# Altium footprint library linear.PCBLIB: 119 footprints (part 5 of 8)
Each footprint in its own frame and in the unit in brackets; x right, y up, seen from the top. Pads: shape width x height; smd on the part's side, far side on the other; paste and mask are expansions set on the pad; w line width, h text height; cw(c..) or ccw(c..) is an arc to the next point about the centre after c.
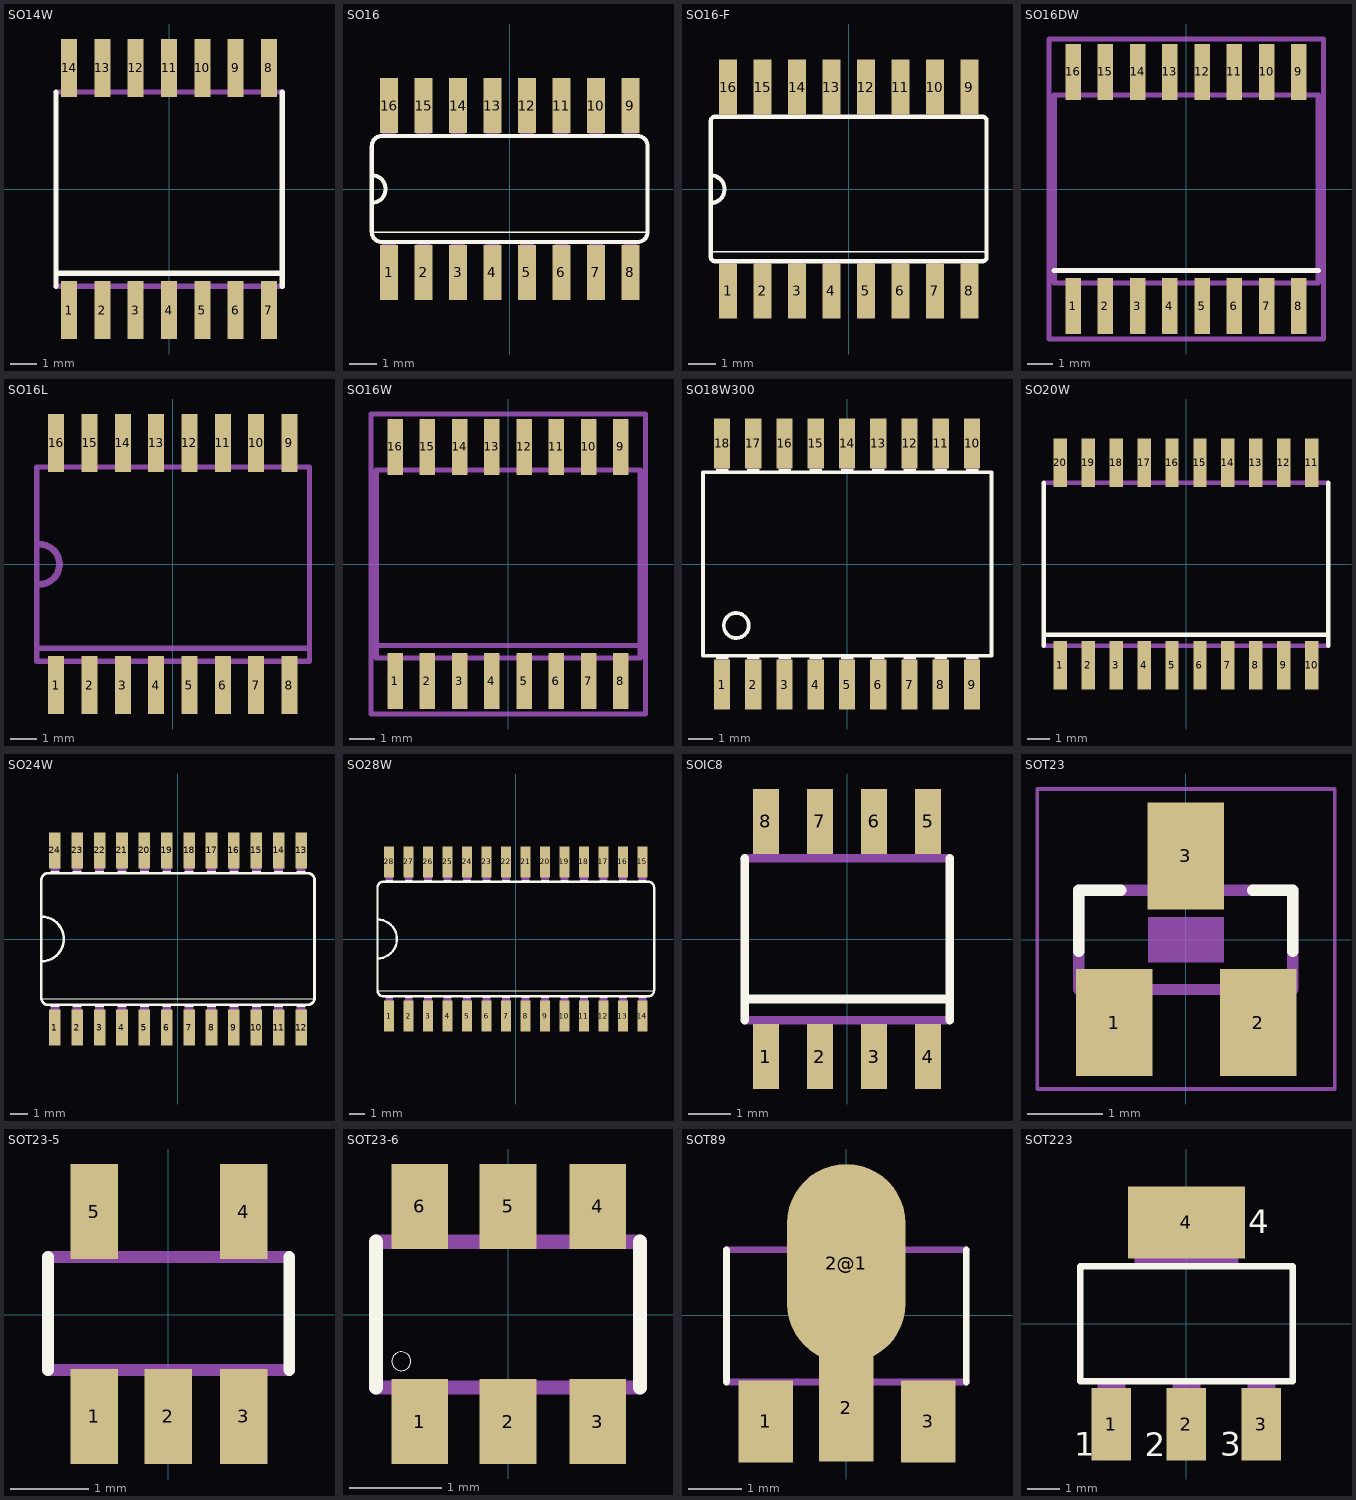
[diagram p4: the footprints below, top view; thin cyan lines are the x and y axes]

## SO14W [mil]
pads (14):
  rect 24x87 smd: 1(-150,-181.1) 2(-100,-181.1) 3(-50,-181.1) 4(0,-181.1) 5(50,-181.1) 6(100,-181.1) 7(150,-181.1) 8(150,182) 9(100,182) 10(50,182) 11(0,182) 12(-50,182) 13(-100,182) 14(-150,182)
Top Overlay:
  lines w8: -169.49,-145.67 -169.49,-125.98 ; -169.49,146 -169.49,-125.98 ; 170,-145.67 170,-125.98 ; 170,146 170,-125.98 ; -169.49,-125.98 170,-125.98
Mechanical 16:
  rectangle: -159.65,-209.45 -140.35,-149.61
  rectangle: -109.65,-209.45 -90.35,-149.61
  rectangle: -59.65,-209.45 -40.35,-149.61
  rectangle: -9.65,-209.45 10,-149.61
  rectangle: 41,-209.45 60,-149.61
  rectangle: 91,-209.45 110,-149.61
  rectangle: 141,-209.45 160,-149.61
  rectangle: 141,150 160,210
  rectangle: 91,150 110,210
  rectangle: 41,150 60,210
  rectangle: -9.65,150 10,210
  rectangle: -59.65,150 -40.35,210
  rectangle: -109.65,150 -90.35,210
  rectangle: -159.65,150 -140.35,210
  lines w8: -169.49,-145.67 170,-145.67 ; -169.49,146 170,146

## SO16 [mil]
pads (16):
  rect 26x80 smd: 1(-175,-121) 2(-125,-121) 3(-75,-121) 4(-25,-121) 5(25,-121) 6(75,-121) 7(125,-121) 8(175,-121) 9(175,121) 10(125,121) 11(75,121) 12(25,121) 13(-25,121) 14(-75,121) 15(-125,121) 16(-175,121)
Top Overlay:
  lines w2: -200,-63 200,-63
  lines w6: -200,-20 -200,20 ; -200,-20 -200,-62 ccw(c-185,-62) -185,-77 185,-77 ccw(c185,-62) 200,-62 200,62 ccw(c185,62) 185,77 -185,77 ccw(c-185,62) -200,62 -200,20 ; -200,-20 ccw(c-200,0) -200,20
Mechanical 16:
  rectangle: -35,77 -15,122
  rectangle: -185,-122 -165,-77
  rectangle: -135,-122 -115,-77
  rectangle: -85,-121 -65,-76
  rectangle: -35,-122 -15,-77
  rectangle: -85,77 -65,122
  rectangle: -135,77 -115,122
  rectangle: -185,77 -165,122
  rectangle: 15,-122 35,-77
  rectangle: 65,-122 85,-77
  rectangle: 115,-122 135,-77
  rectangle: 165,-122 185,-77
  rectangle: 15,77 35,122
  rectangle: 65,77 85,122
  rectangle: 115,77 135,122
  rectangle: 165,77 185,122

## SO16-F [mil]
pads (16):
  rect 26x80 smd: 1(-175,-147.57) 2(-125,-147.57) 3(-75,-147.57) 4(-25,-147.57) 5(25,-147.57) 6(75,-147.57) 7(125,-147.57) 8(175,-147.57) 9(175,148) 10(125,148) 11(75,148) 12(25,148) 13(-25,148) 14(-75,148) 15(-125,148) 16(-175,148)
Top Overlay:
  lines w2: -200,-90.56 200,-90.56
  lines w6: -200,-20 -200,20 ; -200,-20 -200,-90.56 -200,-98.42 ccw(c-193.86,-98.42) -193.86,-104.56 194,-104.56 ccw(c193.93,-98.49) 200,-98.42 200,-90.56 200,99 ccw(c194,99) 194,105 -193.86,105 ccw(c-193.93,98.93) -200,99 -200,20 ; -200,-20 ccw(c-200,0) -200,20
Mechanical 16:
  rectangle: -35,108 -15,162
  rectangle: -185,-161.37 -165,-107.28
  rectangle: -135,-161.37 -115,-107.28
  rectangle: -85,-160.37 -65,-107.28
  rectangle: -35,-161.37 -15,-107.28
  rectangle: -85,108 -65,162
  rectangle: -135,108 -115,162
  rectangle: -185,108 -165,162
  rectangle: 15,-161.37 35,-107.28
  rectangle: 65,-161.37 85,-107.28
  rectangle: 115,-161.37 135,-107.28
  rectangle: 165,-161.37 185,-107.28
  rectangle: 15,108 35,162
  rectangle: 65,108 85,162
  rectangle: 115,108 135,162
  rectangle: 165,108 185,162

## SO16DW [mil]
pads (16):
  rect 24x87 smd: 1(-175,-181.1) 2(-125,-181.1) 3(-75,-181.1) 4(-25,-181.1) 5(25,-181.1) 6(75,-181.1) 7(125,-181.1) 8(175,-181.1) 9(175,182) 10(125,182) 11(75,182) 12(25,182) 13(-25,182) 14(-75,182) 15(-125,182) 16(-175,182)
Top Overlay:
  lines w8: -204.33,-125.98 205,-125.98
Mechanical 16:
  rectangle: -184.65,-209.45 -165.35,-149.61
  rectangle: -134.65,-209.45 -115.35,-149.61
  rectangle: -84.65,-209.45 -65.35,-149.61
  rectangle: -34.65,-209.45 -15.35,-149.61
  rectangle: 16,-209.45 35,-149.61
  rectangle: 66,-209.45 85,-149.61
  rectangle: 116,-209.45 135,-149.61
  rectangle: 166,-209.45 185,-149.61
  rectangle: 166,150 185,210
  rectangle: 116,150 135,210
  rectangle: 66,150 85,210
  rectangle: 16,150 35,210
  rectangle: -34.65,150 -15.35,210
  rectangle: -84.65,150 -65.35,210
  rectangle: -134.65,150 -115.35,210
  rectangle: -184.65,150 -165.35,210
  lines w8: -204.33,-145.67 205,-145.67 205,146 -204.33,146 -204.33,-145.67
Mechanical 27:
  lines w8: -212.4,-232.28 213,-232.28 213,233 -212.4,233 -212.4,-232.28

## SO16L [mil]
pads (16):
  rect 24x87 smd: 1(-175,-181.1) 2(-125,-181.1) 3(-75,-181.1) 4(-25,-181.1) 5(25,-181.1) 6(75,-181.1) 7(125,-181.1) 8(175,-181.1) 9(175,182) 10(125,182) 11(75,182) 12(25,182) 13(-25,182) 14(-75,182) 15(-125,182) 16(-175,182)
Mechanical 13:
  lines w10: -200,-30 ccw(c-200,0) -200,30
Mechanical 16:
  rectangle: -184.65,-209.45 -165.35,-149.61
  rectangle: -134.65,-209.45 -115.35,-149.61
  rectangle: -84.65,-209.45 -65.35,-149.61
  rectangle: -34.65,-209.45 -15.35,-149.61
  rectangle: 16,-209.45 35,-149.61
  rectangle: 66,-209.45 85,-149.61
  rectangle: 116,-209.45 135,-149.61
  rectangle: 166,-209.45 185,-149.61
  rectangle: 166,150 185,210
  rectangle: 116,150 135,210
  rectangle: 66,150 85,210
  rectangle: 16,150 35,210
  rectangle: -34.65,150 -15.35,210
  rectangle: -84.65,150 -65.35,210
  rectangle: -134.65,150 -115.35,210
  rectangle: -184.65,150 -165.35,210
  lines w8: -204.33,-125.98 -204.33,-145.67 205,-145.67 205,-125.98 ; -204.33,-125.98 -204.33,146 205,146 205,-125.98 ; -204.33,-125.98 205,-125.98

## SO16W [mil]
pads (16):
  rect 24x87 smd: 1(-175,-181.1) 2(-125,-181.1) 3(-75,-181.1) 4(-25,-181.1) 5(25,-181.1) 6(75,-181.1) 7(125,-181.1) 8(175,-181.1) 9(175,182) 10(125,182) 11(75,182) 12(25,182) 13(-25,182) 14(-75,182) 15(-125,182) 16(-175,182)
Mechanical 16:
  rectangle: -184.65,-209.45 -165.35,-149.61
  rectangle: -134.65,-209.45 -115.35,-149.61
  rectangle: -84.65,-209.45 -65.35,-149.61
  rectangle: -34.65,-209.45 -15.35,-149.61
  rectangle: 16,-209.45 35,-149.61
  rectangle: 66,-209.45 85,-149.61
  rectangle: 116,-209.45 135,-149.61
  rectangle: 166,-209.45 185,-149.61
  rectangle: 166,150 185,210
  rectangle: 116,150 135,210
  rectangle: 66,150 85,210
  rectangle: 16,150 35,210
  rectangle: -34.65,150 -15.35,210
  rectangle: -84.65,150 -65.35,210
  rectangle: -134.65,150 -115.35,210
  rectangle: -184.65,150 -165.35,210
  lines w8: -204.33,-125.98 -204.33,-145.67 205,-145.67 205,-125.98 ; -204.33,-125.98 -204.33,146 205,146 205,-125.98 ; -204.33,-125.98 205,-125.98
Mechanical 27:
  lines w8: -212.4,-232.28 213,-232.28 213,233 -212.4,233 -212.4,-232.28

## SO18W300 [mil]
pads (18):
  rect 26x80 smd: 1(-200,-193) 2(-150,-193) 3(-100,-193) 4(-50,-193) 5(0,-193) 6(50,-193) 7(100,-193) 8(150,-193) 9(200,-193) 10(200,193) 11(150,193) 12(100,193) 13(50,193) 14(0,193) 15(-50,193) 16(-100,193) 17(-150,193) 18(-200,193)
Top Overlay:
  circle w6: c-177.17,-98.43 r20
  rectangle: -210,-152 -190,-147
  rectangle: -160,-152 -140,-147
  rectangle: -110,-152 -90,-147
  rectangle: -60,-152 -40,-147
  rectangle: -10,-152 10,-147
  rectangle: 40,-152 60,-147
  rectangle: 90,-152 110,-147
  rectangle: 140,-152 160,-147
  rectangle: -210,147 -190,152
  rectangle: -160,147 -140,152
  rectangle: -110,147 -90,152
  rectangle: -60,147 -40,152
  rectangle: -10,147 10,152
  rectangle: 40,147 60,152
  rectangle: 90,147 110,152
  rectangle: 140,147 160,152
  rectangle: 190,147 210,152
  rectangle: 190,-152 210,-147
  lines w6: -230.31,-146.65 231,-146.65 231,147 -230.31,147 -230.31,-146.65
Mechanical 16:
  rectangle: -210,-210 -190,-152
  rectangle: -160,-210 -140,-152
  rectangle: -110,-210 -90,-152
  rectangle: -60,-210 -40,-152
  rectangle: -10,-210 10,-152
  rectangle: 40,-210 60,-152
  rectangle: 90,-210 110,-152
  rectangle: 140,-210 160,-152
  rectangle: -210,152 -190,210
  rectangle: -160,152 -140,210
  rectangle: -110,152 -90,210
  rectangle: -60,152 -40,210
  rectangle: -10,152 10,210
  rectangle: 40,152 60,210
  rectangle: 90,152 110,210
  rectangle: 140,152 160,210
  rectangle: 190,152 210,210
  rectangle: 190,-210 210,-152

## SO20W [mil]
pads (20):
  rect 24x87 smd: 1(-225,-181.1) 2(-175,-181.1) 3(-125,-181.1) 4(-75,-181.1) 5(-25,-181.1) 6(25,-181.1) 7(75,-181.1) 8(125,-181.1) 9(175,-181.1) 10(225,-181.1) 11(225,182) 12(175,182) 13(125,182) 14(75,182) 15(25,182) 16(-25,182) 17(-75,182) 18(-125,182) 19(-175,182) 20(-225,182)
Top Overlay:
  lines w8: -254.33,-145.67 -254.33,-125.98 ; -254.33,146 -254.33,-125.98 ; 255,-145.67 255,-125.98 ; 255,146 255,-125.98 ; -254.33,-125.98 255,-125.98
Mechanical 16:
  rectangle: -234.65,-209.45 -215.35,-149.61
  rectangle: -184.65,-209.45 -165.35,-149.61
  rectangle: -134.65,-209.45 -115.35,-149.61
  rectangle: -84.65,-209.45 -65.35,-149.61
  rectangle: -34.65,-209.45 -15.35,-149.61
  rectangle: 16,-209.45 35,-149.61
  rectangle: 66,-209.45 85,-149.61
  rectangle: 116,-209.45 135,-149.61
  rectangle: 166,-209.45 185,-149.61
  rectangle: 216,-209.45 235,-149.61
  rectangle: 216,150 235,210
  rectangle: 166,150 185,210
  rectangle: 116,150 135,210
  rectangle: 66,150 85,210
  rectangle: 16,150 35,210
  rectangle: -34.65,150 -15.35,210
  rectangle: -84.65,150 -65.35,210
  rectangle: -134.65,150 -115.35,210
  rectangle: -184.65,150 -165.35,210
  rectangle: -234.65,150 -215.35,210
  lines w8: -254.33,-145.67 255,-145.67 ; -254.33,146 255,146

## SO24W [mil]
pads (24):
  rect 26x80 smd: 1(-275,-198) 2(-225,-198) 3(-175,-198) 4(-125,-198) 5(-75,-198) 6(-25,-198) 7(25,-198) 8(75,-198) 9(125,-198) 10(175,-198) 11(225,-198) 12(275,-198) 13(275,198) 14(225,198) 15(175,198) 16(125,198) 17(75,198) 18(25,198) 19(-25,198) 20(-75,198) 21(-125,198) 22(-175,198) 23(-225,198) 24(-275,198)
Top Overlay:
  rectangle: -285,-152 -265,-147
  rectangle: -235,-152 -215,-147
  rectangle: -185,-152 -165,-147
  rectangle: -135,-152 -115,-147
  rectangle: -85,-152 -65,-147
  rectangle: -35,-152 -15,-147
  rectangle: 15,-152 35,-147
  rectangle: 65,-152 85,-147
  rectangle: -285,147 -265,152
  rectangle: -235,147 -215,152
  rectangle: -185,147 -165,152
  rectangle: -135,147 -115,152
  rectangle: -85,147 -65,152
  rectangle: -35,147 -15,152
  rectangle: 15,147 35,152
  rectangle: 65,147 85,152
  rectangle: 115,147 135,152
  rectangle: 165,147 185,152
  rectangle: 215,147 235,152
  rectangle: 265,147 285,152
  rectangle: 115,-152 135,-147
  rectangle: 165,-152 185,-147
  rectangle: 215,-152 235,-147
  rectangle: 265,-152 285,-147
  lines w2: -305,-133 305,-133
  lines w6: -305,-50 -305,50 ; -305,-50 -305,-132 ccw(c-290,-132) -290,-147 290,-147 ccw(c290,-132) 305,-132 305,132 ccw(c290,132) 290,147 -290,147 ccw(c-290,132) -305,132 -305,50 ; -305,-50 ccw(c-305,0) -305,50
Mechanical 16:
  rectangle: -285,-210 -265,-152
  rectangle: -235,-210 -215,-152
  rectangle: -185,-210 -165,-152
  rectangle: -135,-210 -115,-152
  rectangle: -85,-210 -65,-152
  rectangle: -35,-210 -15,-152
  rectangle: 15,-210 35,-152
  rectangle: 65,-210 85,-152
  rectangle: -285,152 -265,210
  rectangle: -235,152 -215,210
  rectangle: -185,152 -165,210
  rectangle: -135,152 -115,210
  rectangle: -85,152 -65,210
  rectangle: -35,152 -15,210
  rectangle: 15,152 35,210
  rectangle: 65,152 85,210
  rectangle: 115,152 135,210
  rectangle: 165,152 185,210
  rectangle: 215,152 235,210
  rectangle: 265,152 285,210
  rectangle: 115,-210 135,-152
  rectangle: 165,-210 185,-152
  rectangle: 215,-210 235,-152
  rectangle: 265,-210 285,-152

## SO28W [mil]
pads (28):
  rect 26x80 smd: 1(-325,-198) 2(-275,-198) 3(-225,-198) 4(-175,-198) 5(-125,-198) 6(-75,-198) 7(-25,-198) 8(25,-198) 9(75,-198) 10(125,-198) 11(175,-198) 12(225,-198) 13(275,-198) 14(325,-198) 15(325,198) 16(275,198) 17(225,198) 18(175,198) 19(125,198) 20(75,198) 21(25,198) 22(-25,198) 23(-75,198) 24(-125,198) 25(-175,198) 26(-225,198) 27(-275,198) 28(-325,198)
Top Overlay:
  rectangle: -335,-152 -315,-147
  rectangle: -285,-152 -265,-147
  rectangle: -235,-152 -215,-147
  rectangle: -185,-152 -165,-147
  rectangle: -135,-152 -115,-147
  rectangle: -85,-152 -65,-147
  rectangle: -35,-152 -15,-147
  rectangle: 15,-152 35,-147
  rectangle: -335,147 -315,152
  rectangle: -285,147 -265,152
  rectangle: -235,147 -215,152
  rectangle: -185,147 -165,152
  rectangle: -135,147 -115,152
  rectangle: -85,147 -65,152
  rectangle: -35,147 -15,152
  rectangle: 15,147 35,152
  rectangle: 65,147 85,152
  rectangle: 115,147 135,152
  rectangle: 165,147 185,152
  rectangle: 215,147 235,152
  rectangle: 265,147 285,152
  rectangle: 315,147 335,152
  rectangle: 65,-152 85,-147
  rectangle: 115,-152 135,-147
  rectangle: 165,-152 185,-147
  rectangle: 215,-152 235,-147
  rectangle: 265,-152 285,-147
  rectangle: 315,-152 335,-147
  lines w2: -355,-133 355,-133
  lines w6: -355,-50 -355,50 ; -355,-50 -355,-132 ccw(c-340,-132) -340,-147 340,-147 ccw(c340,-132) 355,-132 355,132 ccw(c340,132) 340,147 -340,147 ccw(c-340,132) -355,132 -355,50 ; -355,-50 ccw(c-355,0) -355,50
Mechanical 16:
  rectangle: -335,-210 -315,-152
  rectangle: -285,-210 -265,-152
  rectangle: -235,-210 -215,-152
  rectangle: -185,-210 -165,-152
  rectangle: -135,-210 -115,-152
  rectangle: -85,-210 -65,-152
  rectangle: -35,-210 -15,-152
  rectangle: 15,-210 35,-152
  rectangle: -335,152 -315,210
  rectangle: -285,152 -265,210
  rectangle: -235,152 -215,210
  rectangle: -185,152 -165,210
  rectangle: -135,152 -115,210
  rectangle: -85,152 -65,210
  rectangle: -35,152 -15,210
  rectangle: 15,152 35,210
  rectangle: 65,-210 85,-152
  rectangle: 115,-210 135,-152
  rectangle: 165,-210 185,-152
  rectangle: 215,-210 235,-152
  rectangle: 265,-210 285,-152
  rectangle: 315,-210 335,-152
  rectangle: 65,152 85,210
  rectangle: 115,152 135,210
  rectangle: 165,152 185,210
  rectangle: 215,152 235,210
  rectangle: 265,152 285,210
  rectangle: 315,152 335,210

## SOIC8 [mil]
pads (8):
  rect 24x60 smd: 1(-75,-108.27) 2(-25,-108.27) 3(25,-108.27) 4(75,-108.27) 5(75,109) 6(25,109) 7(-25,109) 8(-75,109)
Top Overlay:
  lines w8: -94.49,-74.8 -94.49,-55.12 ; -94.49,75 -94.49,-55.12 ; 95,-74.8 95,-55.12 ; 95,75 95,-55.12 ; -94.49,-55.12 95,-55.12
Mechanical 16:
  rectangle: -84.65,-122.05 -65.35,-78.74
  rectangle: -34.65,-122.05 -15.35,-78.74
  rectangle: 16,-122.05 35,-78.74
  rectangle: 66,-122.05 85,-78.74
  rectangle: 66,79 85,123
  rectangle: 16,79 35,123
  rectangle: -34.65,79 -15.35,123
  rectangle: -84.65,79 -65.35,123
  lines w8: -94.49,-74.8 95,-74.8 ; -94.49,75 95,75

## SOT23 [mil]
pads (3):
  rect 40x56 smd: 1(-37.4,-43.31) 2(38,-43.31) 3(0,44)
Top Overlay:
  lines w6: -55.98,-5.98 -55.98,26 -34.02,26 ; 35,26 56,26 56,-5.98
Mechanical 6:
  rectangle: -19.69,-11.81 20,12
Mechanical 16:
  rectangle: -9,28 9,51
  rectangle: 28,-51 46,-28
  rectangle: -46,-51 -28,-28
  lines w6: -55.98,-25.98 56,-25.98 56,26 -55.98,26 -55.98,-25.98
Mechanical 27:
  lines w2: -77.68,-78.07 78,-78.07 78,79 -77.68,79 -77.68,-78.07

## SOT23-5 [mil]
pads (5):
  rect 24x48 smd: 1(-37.4,-51.42) 2(0,-51.42) 3(38,-51.42) 4(38,52) 5(-37.4,52)
Top Overlay:
  lines w6: -60.79,-28.03 -60.79,29 ; 61,-28.03 61,29
Mechanical 16:
  rectangle: -46.75,29 -28.05,61
  rectangle: 29,29 47,61
  rectangle: -46.75,-60.78 -28.05,-28.05
  rectangle: -9.35,-60.78 10,-28.05
  rectangle: 29,-60.78 47,-28.05
  lines w6: -60.79,-28.03 61,-28.03 ; -60.79,29 61,29

## SOT23-6 [mil]
pads (6):
  rect 24x36 smd: 1(-37.4,-45.28) 2(0,-45.28) 3(38,-45.28) 4(38,46) 5(0,46) 6(-37.4,46)
Top Overlay:
  circle w0: c-45.28,-19.68 r4
  lines w6: -56.02,-30.75 -56.02,31 ; 56,-30.75 56,31
Mechanical 16:
  rectangle: -47.24,-55.12 -27.56,-31.5
  rectangle: -9.84,-55.12 10,-31.5
  rectangle: 28,-55.12 48,-31.5
  rectangle: 28,32 48,56
  rectangle: -9.84,32 10,56
  rectangle: -47.24,32 -27.56,56
  lines w6: -56.02,-30.75 56,-30.75 ; -56.02,31 56,31

## SOT89 [mil]
pads (4):
  rect 40x60 smd: 1(-59.02,-77.99) 3(60,-77.99)
  rect 40x79 smd: 2(0,-67.99)
  rrect100% 87x146 smd: 2@1(0,38)
Top Overlay:
  lines w5: -87.99,-49.02 -87.99,48 ; 88,-49.02 88,48
Top Paste:
  rectangle: -15.75,-105.51 16,-50.39
  rectangle: 44,-105.51 75,-50.39
  rectangle: -74.8,-105.51 -43.31,-50.39
  rectangle: -35.43,0 36,87
Top Solder:
  rectangle: -79.72,-109.25 -38.39,-47.24
  rectangle: 39,-109.25 80,-47.24
  rectangle: -20.67,-109.25 21,-47.24
Mechanical 16:
  rectangle: -68,-83 -50,-50
  rectangle: 50,-83 68,-50
  rectangle: -11,-83 11,-50
  region: 0,0 10,0 10,10 0,10
  lines w5: -87.99,-49.02 88,-49.02 ; -87.99,48 88,48
  lines w8: -31,51 31,51 31,62 14,79 -14,79 -31,62 -31,51

## SOT223 [mil]
pads (4):
  rect 48x88 smd: 1(-91,-122) 2(0,-122) 3(91,-122)
  rect 142x87 smd: 4(0,123)
Top Overlay:
  lines w8: -129,-70 129,-70 129,70 -129,70 -129,-70
  text "3" at 41,-170 h49.6
  text "4" at 75,100 h49.6
  text "1" at -135.93,-170 h49.6
  text "2" at -50.81,-170.37 h49.6
Mechanical 16:
  rectangle: -63,71 63,144
  rectangle: -17,-144 17,-71
  rectangle: -108,-144 -74,-71
  rectangle: 74,-144 108,-71
  rectangle: -63,71 63,144
  rectangle: -17,-144 17,-71
  rectangle: -108,-144 -74,-71
  rectangle: 74,-144 108,-71